# EAGLE library part MINI-PCI (library work)
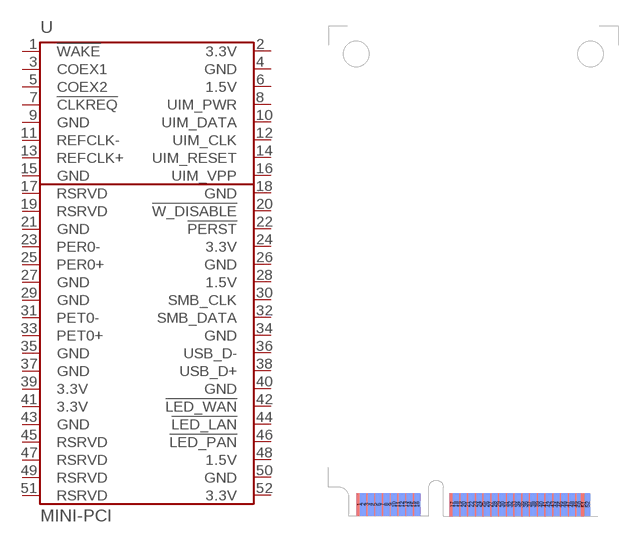
[diagram p49: symbol with the pads of PCIE-MINI_CARD; footprint PCIE-MINI_CARD]

Designator prefix -

## MINI-PCI  [PCIE-MINI_CARD]
1  !WAKE
2  3.3V
3  COEX1
4  GND
5  COEX2
6  1.5V
7  !CLKREQ
8  UIM_PWR
9  GND
10  UIM_DATA
11  REFCLK-
12  UIM_CLK
13  REFCLK+
14  UIM_RESET
15  GND
16  UIM_VPP
17  RSRVD
18  GND
19  RSRVD
20  !W_DISABLE
21  GND
22  !PERST
23  PER0-
24  3.3V
25  PER0+
26  GND
27  GND
28  1.5V
29  GND
30  SMB_CLK
31  PET0-
32  SMB_DATA
33  PET0+
34  GND
35  GND
36  USB_D-
37  GND
38  USB_D+
39  3.3V
40  GND
41  3.3V
42  !LED_WAN
43  GND
44  !LED_LAN
45  RSRVD
46  !LED_PAN
47  RSRVD
48  1.5V
49  RSRVD
50  GND
51  RSRVD
52  3.3V

## Footprint PCIE-MINI_CARD (pad centres in mm)
smd 0.6 x 2.3: 1 -7.95,1.25; 3 -7.15,1.25; 5 -6.35,1.25; 7 -5.55,1.25; 9 -4.75,1.25; 11 -3.95,1.25; 13 -3.15,1.25; 15 -2.35,1.25; 17 1.65,1.25; 19 2.45,1.25; 21 3.25,1.25; 23 4.05,1.25; 25 4.85,1.25; 27 5.65,1.25; 29 6.45,1.25; 31 7.25,1.25; 33 8.05,1.25; 35 8.85,1.25; 37 9.65,1.25; 39 10.45,1.25; 41 11.25,1.25; 43 12.05,1.25; 45 12.85,1.25; 47 13.65,1.25; 49 14.45,1.25; 51 15.25,1.25
smd 0.6 x 2.3 bottom: 2 -7.55,1.25; 4 -6.75,1.25; 6 -5.95,1.25; 8 -5.15,1.25; 10 -4.35,1.25; 12 -3.55,1.25; 14 -2.75,1.25; 16 -1.95,1.25; 18 2.05,1.25; 20 2.85,1.25; 22 3.65,1.25; 24 4.45,1.25; 26 5.25,1.25; 28 6.05,1.25; 30 6.85,1.25; 32 7.65,1.25; 34 8.45,1.25; 36 9.25,1.25; 38 10.05,1.25; 40 10.85,1.25; 42 11.65,1.25; 44 12.45,1.25; 46 13.25,1.25; 48 14.05,1.25; 50 14.85,1.25; 52 15.65,1.25